# Altium footprint library PCB - CAPACITOR - ALUMINIUM - CAP TH ALUM ELEC D12.50mm S5.00mm H40.00mm.PCBLIB: 1 footprints
Each footprint in its own frame and in the unit in brackets; x right, y up, seen from the top. Pads: shape width x height; smd on the part's side, far side on the other; paste and mask are expansions set on the pad; w line width, h text height; cw(c..) or ccw(c..) is an arc to the next point about the centre after c.
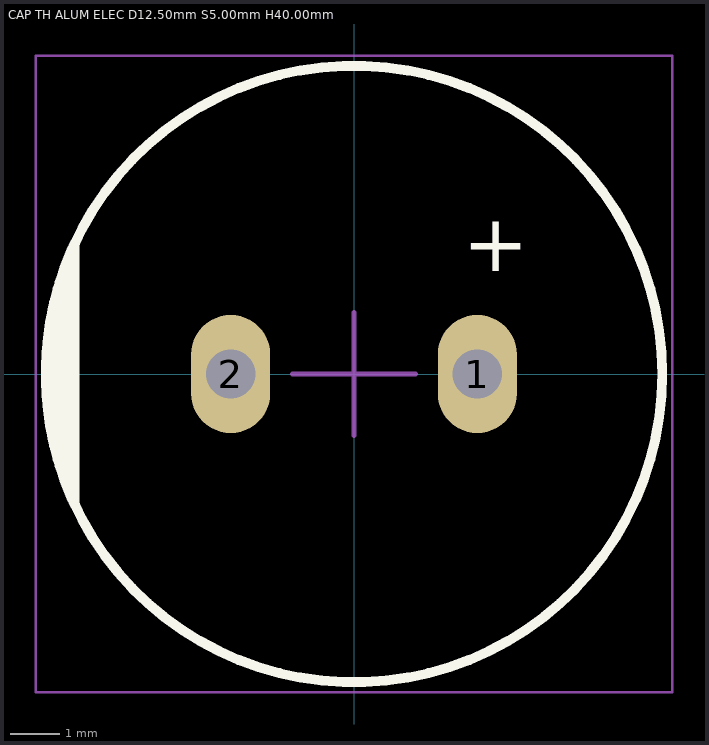
[diagram p0: the footprint, top view; thin cyan lines are the x and y axes]

## CAP TH ALUM ELEC D12.50mm S5.00mm H40.00mm [mm] "12.5mm Diameter 5mm Lead Spacing Aluminum Electrolytic Capacitors Radial, Can"
height 40
pads (2):
  oval 1.6x2.4 hole 1: 1(2.5,0) 2(-2.5,0)
Top Overlay:
  circle w0.2: c0,0 r6.25
  region: -5.664,-2.641 -5.809,-2.332 -6.028,-1.686 -6.176,-1.02 -6.25,-0.341 -6.25,0.341 -6.176,1.02 -6.028,1.686 -5.809,2.332 -5.664,2.641
  lines w0.2: -5.664,-2.641 cw(c0,0) -5.664,2.641 -5.664,-2.641
  text "+" at 2.2,1.7 h2
Mechanical 13:
  circle w0.1: c0,0 r6.25
  lines w0.1: -5.664,-2.641 -5.664,2.641
Mechanical 15:
  lines w0.05: -6.45,-6.45 -6.45,6.45 6.45,6.45 6.45,-6.45 -6.45,-6.45
  lines w0.1: -1.25,0 0,0 ; 0,-1.25 0,0 ; 0,1.25 0,0 ; 1.25,0 0,0
3D body "Cap TH D12.50mm H40.00mm L5.00mm.step": height 40, standoff -2.5, extent -6.257,-6.25 6.25,6.25